# EAGLE library part DIL6 (library R8C)
Dual In Line / Socket
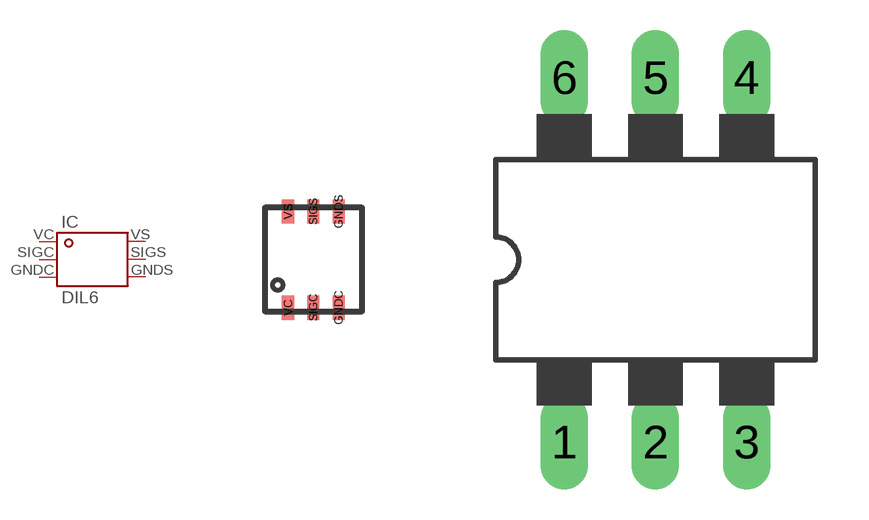
[diagram p0: symbol with the pads of TDFN6; footprints TDFN6, DIL06-4]

Designator prefix IC

## DIL6TDFN6  [TDFN6]
GNDC  3  pas
GNDS  4  pas
SIGC  2  pas
SIGS  5  pas
VC  1  pas
VS  6  pas

## DIL6/4  [DIL06-4]
1  1  pas
2  2  pas
3  3  pas
4  4  pas
5  5  pas
6  6  pas

## DIL6S  [SOCKET-06]
Pads as for DIL06-4

## Footprint TDFN6 (pad centres in mm)
Dual In Line Package
smd 0.305 x 0.61: GNDC 0.635,-1.202; GNDS 0.635,1.202; SIGC 0,-1.202; SIGS 0,1.202; VC -0.635,-1.202; VS -0.635,1.202

## Footprint DIL06-4 (pad centres in mm)
Dual In Line Package 0.4 inch
drill 0.813 long: 1 -2.54,-5.08; 2 0,-5.08; 3 2.54,-5.08; 4 2.54,5.08; 5 0,5.08; 6 -2.54,5.08

## Footprint SOCKET-06 (pad centres in mm)
Dual In Line Socket
drill 0.813 long: 1 -2.54,-3.81; 2 0,-3.81; 3 2.54,-3.81; 4 2.54,3.81; 5 0,3.81; 6 -2.54,3.81